# EAGLE library part SIM908 (library sim908_-made_by_hardik)
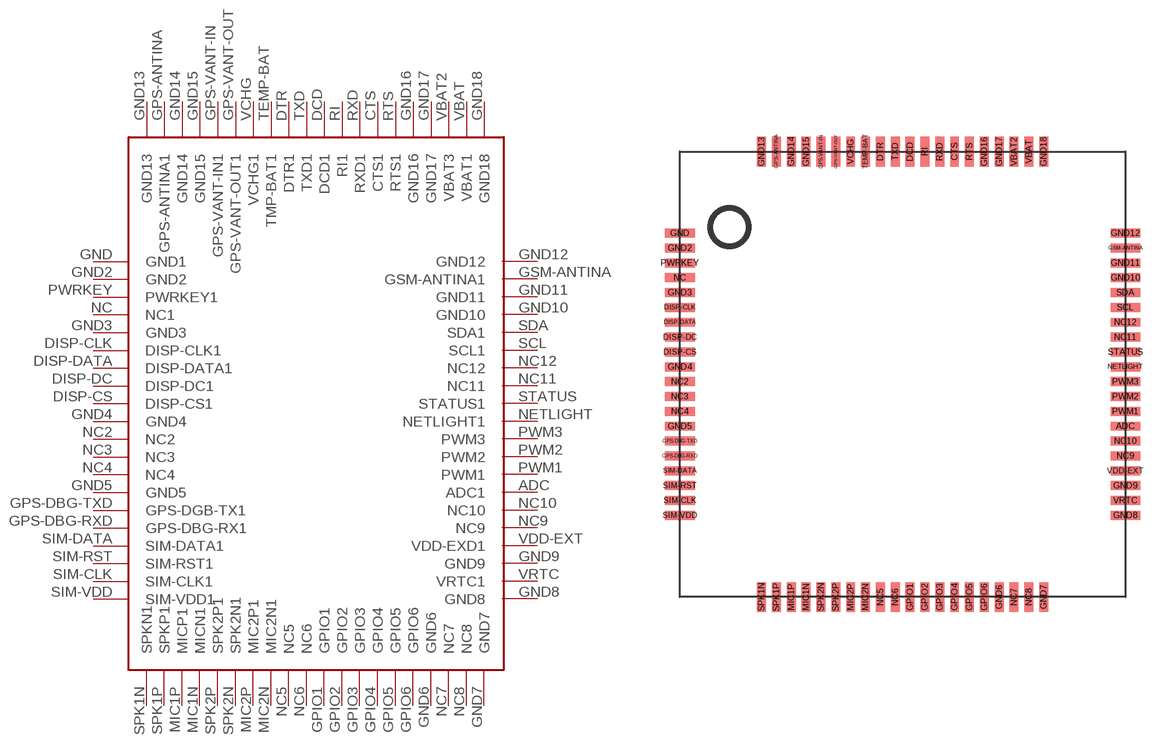
[diagram p0: symbol with the pads of SIM908; footprint SIM908]

Designator prefix -

## SIM908  [SIM908]
ADC  ADC1
CTS  CTS1
DCD  DCD1
DISP-CLK  DISP-CLK1
DISP-CS  DISP-CS1
DISP-DATA  DISP-DATA1
DISP-DC  DISP-DC1
DTR  DTR1
GND  GND1
GND2  GND2
GND3  GND3
GND4  GND4
GND5  GND5
GND6  GND6
GND7  GND7
GND8  GND8
GND9  GND9
GND10  GND10
GND11  GND11
GND12  GND12
GND13  GND13
GND14  GND14
GND15  GND15
GND16  GND16
GND17  GND17
GND18  GND18
GPIO1  GPIO1
GPIO2  GPIO2
GPIO3  GPIO3
GPIO4  GPIO4
GPIO5  GPIO5
GPIO6  GPIO6
GPS-ANTINA  GPS-ANTINA1
GPS-DBG-RXD  GPS-DBG-RX1
GPS-DBG-TXD  GPS-DGB-TX1
GPS-VANT-IN  GPS-VANT-IN1
GPS-VANT-OUT  GPS-VANT-OUT1
GSM-ANTINA  GSM-ANTINA1
MIC1N  MICN1
MIC1P  MICP1
MIC2N  MIC2N1
MIC2P  MIC2P1
NC  NC1
NC2  NC2
NC3  NC3
NC4  NC4
NC5  NC5
NC6  NC6
NC7  NC7
NC8  NC8
NC9  NC9
NC10  NC10
NC11  NC11
NC12  NC12
NETLIGHT  NETLIGHT1
PWM1  PWM1
PWM2  PWM2
PWM3  PWM3
PWRKEY  PWRKEY1
RI  RI1
RTS  RTS1
RXD  RXD1
SCL  SCL1
SDA  SDA1
SIM-CLK  SIM-CLK1
SIM-DATA  SIM-DATA1
SIM-RST  SIM-RST1
SIM-VDD  SIM-VDD1
SPK1N  SPKN1
SPK1P  SPKP1
SPK2N  SPK2N1
SPK2P  SPK2P1
STATUS  STATUS1
TEMP-BAT  TMP-BAT1
TXD  TXD1
VBAT  VBAT1
VBAT2  VBAT3
VCHG  VCHG1
VDD-EXT  VDD-EXD1
VRTC  VRTC1

## Footprint SIM908 (pad centres in mm)
smd 2 x 0.6: ADC 0,-18.5; DISP-CLK -30,-10.5; DISP-CS -30,-13.5; DISP-DATA -30,-11.5; DISP-DC -30,-12.5; GND -30,-5.5; GND2 -30,-6.5; GND3 -30,-9.5; GND4 -30,-14.5; GND5 -30,-18.5; GND8 0,-24.5; GND9 0,-22.5; GND10 0,-8.5; GND11 0,-7.5; GND12 0,-5.5; GPS-DBG-RXD -30,-20.5; GPS-DBG-TXD -30,-19.5; GSM-ANTINA 0,-6.5; NC -30,-8.5; NC2 -30,-15.5; NC3 -30,-16.5; NC4 -30,-17.5; NC9 0,-20.5; NC10 0,-19.5; NC11 0,-12.5; NC12 0,-11.5; NETLIGHT 0,-14.5; PWM1 0,-17.5; PWM2 0,-16.5; PWM3 0,-15.5; PWRKEY -30,-7.5; SCL 0,-10.5; SDA 0,-9.5; SIM-CLK -30,-23.5; SIM-DATA -30,-21.5; SIM-RST -30,-22.5; SIM-VDD -30,-24.5; STATUS 0,-13.5; VDD-EXT 0,-21.5; VRTC 0,-23.5
smd 0.6 x 2: CTS -11.5,0; DCD -14.5,0; DTR -16.5,0; GND6 -8.5,-30; GND7 -5.5,-30; GND13 -24.5,0; GND14 -22.5,0; GND15 -21.5,0; GND16 -9.5,0; GND17 -8.5,0; GND18 -5.5,0; GPIO1 -14.5,-30; GPIO2 -13.5,-30; GPIO3 -12.5,-30; GPIO4 -11.5,-30; GPIO5 -10.5,-30; GPIO6 -9.5,-30; GPS-ANTINA -23.5,0; GPS-VANT-IN -20.5,0; GPS-VANT-OUT -19.5,0; MIC1N -21.5,-30; MIC1P -22.5,-30; MIC2N -17.5,-30; MIC2P -18.5,-30; NC5 -16.5,-30; NC6 -15.5,-30; NC7 -7.5,-30; NC8 -6.5,-30; RI -13.5,0; RTS -10.5,0; RXD -12.5,0; SPK1N -24.5,-30; SPK1P -23.5,-30; SPK2N -20.5,-30; SPK2P -19.5,-30; TEMP-BAT -17.5,0; TXD -15.5,0; VBAT -6.5,0; VBAT2 -7.5,0; VCHG -18.5,0